# EAGLE library part 50499-012 (library con-aces-50499-series)
ACES CONNECTORS 50499 SERIES ACES Connecors 50499 <https://www.acesconn.com/series/50499-xxxxx-xxx/1229>
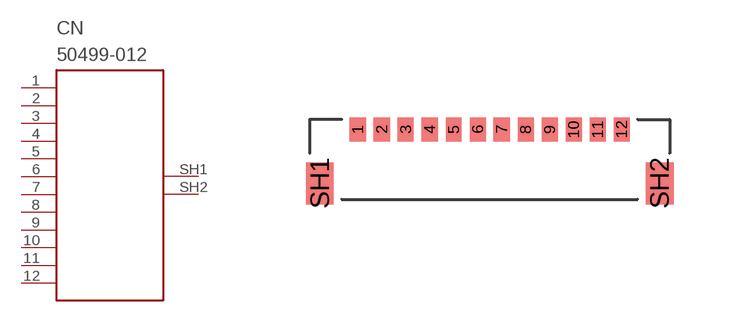
[diagram p6: symbol with the pads of 50499-012; footprint 50499-012]

Designator prefix CN

## 50499-012  [50499-012]
1  1
2  2
3  3
4  4
5  5
6  6
7  7
8  8
9  9
10  10
11  11
12  12
SH1  SH1
SH2  SH2

## Footprint 50499-012 (pad centres in mm)
smd 0.4 x 0.6: 1 -3.3,0; 2 -2.7,0; 3 -2.1,0; 4 -1.5,0; 5 -0.9,0; 6 -0.3,0; 7 0.3,0; 8 0.9,0; 9 1.5,0; 10 2.1,0; 11 2.7,0; 12 3.3,0
smd 0.7 x 1.05: SH1 -4.25,-1.35; SH2 4.25,-1.35